# EAGLE library part MSL0104RGBU1 (library ZHAW_BA)
LED RGB 2.1V, 3.3V, 3.2V @20mA, MSL0104RGBU1 DigiKey: Pt.Nr: MSL0104RGBU1CT-ND https://www.digikey.ch/products/de?keywords=MSL0104RGBU1CT-ND
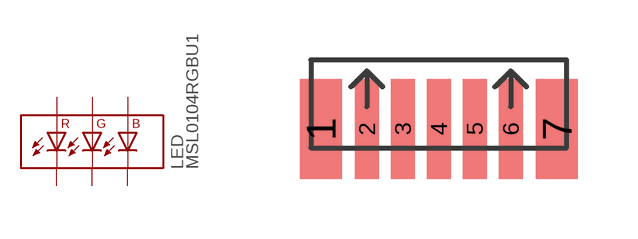
[diagram p2: symbol with the pads of MSL0104RGBU1_LED_90°_RGB; footprint MSL0104RGBU1_LED_90°_RGB]

Designator prefix LED

## MSL0104RGBU1 (DIGIKEY: MSL0104RGBU1CT-ND; MANUFACTURER_PART_NUMBER: MSL0104RGBU1)  [MSL0104RGBU1_LED_90°_RGB]
1  RA  pas
2  GA  pas
3  GC  pas
4  RC  pas
5  BC  pas
6  BA  pas
7  RA  pas

## Footprint MSL0104RGBU1_LED_90°_RGB (pad centres in mm)
smd 1.06 x 2.5: 1 -2.95,-0.15; 7 2.95,-0.15
smd 0.6 x 2.5: 2 -1.8,-0.15; 3 -0.9,-0.15; 4 0,-0.15; 5 0.9,-0.15; 6 1.8,-0.15